# EAGLE library part SLIMUHD2TRYDEVICE (library slimuhd2TRY)
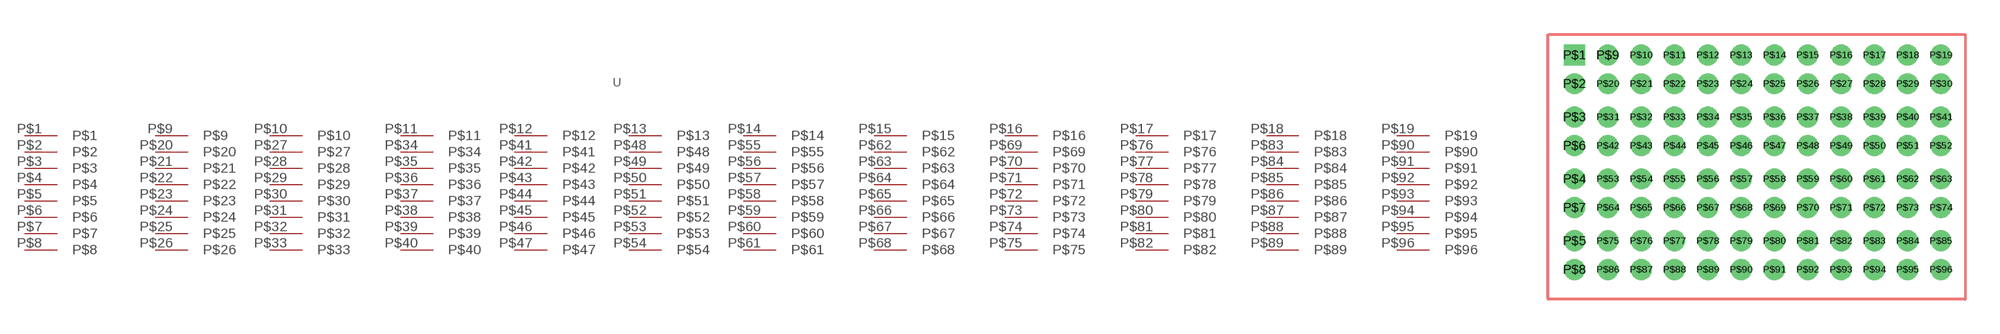
[diagram p0: symbol with the pads of SLIMUHD2TRYPACKEGE; footprint SLIMUHD2TRYPACKEGE]

Designator prefix -

## SLIMUHD2TRYDEVICE  [SLIMUHD2TRYPACKEGE]
P$1  P$1
P$2  P$2
P$3  P$3
P$4  P$4
P$5  P$5
P$6  P$6
P$7  P$7
P$8  P$8
P$9  P$9
P$10  P$10
P$11  P$11
P$12  P$12
P$13  P$13
P$14  P$14
P$15  P$15
P$16  P$16
P$17  P$17
P$18  P$18
P$19  P$19
P$20  P$20
P$21  P$21
P$22  P$22
P$23  P$23
P$24  P$24
P$25  P$25
P$26  P$26
P$27  P$27
P$28  P$28
P$29  P$29
P$30  P$30
P$31  P$31
P$32  P$32
P$33  P$33
P$34  P$34
P$35  P$35
P$36  P$36
P$37  P$37
P$38  P$38
P$39  P$39
P$40  P$40
P$41  P$41
P$42  P$42
P$43  P$43
P$44  P$44
P$45  P$45
P$46  P$46
P$47  P$47
P$48  P$48
P$49  P$49
P$50  P$50
P$51  P$51
P$52  P$52
P$53  P$53
P$54  P$54
P$55  P$55
P$56  P$56
P$57  P$57
P$58  P$58
P$59  P$59
P$60  P$60
P$61  P$61
P$62  P$62
P$63  P$63
P$64  P$64
P$65  P$65
P$66  P$66
P$67  P$67
P$68  P$68
P$69  P$69
P$70  P$70
P$71  P$71
P$72  P$72
P$73  P$73
P$74  P$74
P$75  P$75
P$76  P$76
P$77  P$77
P$78  P$78
P$79  P$79
P$80  P$80
P$81  P$81
P$82  P$82
P$83  P$83
P$84  P$84
P$85  P$85
P$86  P$86
P$87  P$87
P$88  P$88
P$89  P$89
P$90  P$90
P$91  P$91
P$92  P$92
P$93  P$93
P$94  P$94
P$95  P$95
P$96  P$96

## Footprint SLIMUHD2TRYPACKEGE (pad centres in mm)
drill 0.4 square: P$1 0,0
drill 0.4: P$2 0,-1.25; P$3 0,-2.7; P$4 0,-5.4; P$5 0,-8.1; P$6 0,-3.95; P$7 0,-6.65; P$8 0,-9.35; P$9 1.45,0; P$10 2.9,0; P$11 4.35,0; P$12 5.8,0; P$13 7.25,0; P$14 8.7,0; P$15 10.15,0; P$16 11.6,0; P$17 13.05,0; P$18 14.5,0; P$19 15.95,0; P$20 1.45,-1.25; P$21 2.9,-1.25; P$22 4.35,-1.25; P$23 5.8,-1.25; P$24 7.25,-1.25; P$25 8.7,-1.25; P$26 10.15,-1.25; P$27 11.6,-1.25; P$28 13.05,-1.25; P$29 14.5,-1.25; P$30 15.95,-1.25; P$31 1.45,-2.7; P$32 2.9,-2.7; P$33 4.35,-2.7; P$34 5.8,-2.7; P$35 7.25,-2.7; P$36 8.7,-2.7; P$37 10.15,-2.7; P$38 11.6,-2.7; P$39 13.05,-2.7; P$40 14.5,-2.7; P$41 15.95,-2.7; P$42 1.45,-3.95; P$43 2.9,-3.95; P$44 4.35,-3.95; P$45 5.8,-3.95; P$46 7.25,-3.95; P$47 8.7,-3.95; P$48 10.15,-3.95; P$49 11.6,-3.95; P$50 13.05,-3.95; P$51 14.5,-3.95; P$52 15.95,-3.95; P$53 1.45,-5.4; P$54 2.9,-5.4; P$55 4.35,-5.4; P$56 5.8,-5.4; P$57 7.25,-5.4; P$58 8.7,-5.4; P$59 10.15,-5.4; P$60 11.6,-5.4; P$61 13.05,-5.4; P$62 14.5,-5.4; P$63 15.95,-5.4; P$64 1.45,-6.65; P$65 2.9,-6.65; P$66 4.35,-6.65; P$67 5.8,-6.65; P$68 7.25,-6.65; P$69 8.7,-6.65; P$70 10.15,-6.65; P$71 11.6,-6.65; P$72 13.05,-6.65; P$73 14.5,-6.65; P$74 15.95,-6.65; P$75 1.45,-8.1; P$76 2.9,-8.1; P$77 4.35,-8.1; P$78 5.8,-8.1; P$79 7.25,-8.1; P$80 8.7,-8.1; P$81 10.15,-8.1; P$82 11.6,-8.1; P$83 13.05,-8.1; P$84 14.5,-8.1; P$85 15.95,-8.1; P$86 1.45,-9.35; P$87 2.9,-9.35; P$88 4.35,-9.35; P$89 5.8,-9.35; P$90 7.25,-9.35; P$91 8.7,-9.35; P$92 10.15,-9.35; P$93 11.6,-9.35; P$94 13.05,-9.35; P$95 14.5,-9.35; P$96 15.95,-9.35